# EAGLE library part MIDI_JACK (library CYCFI_Con)
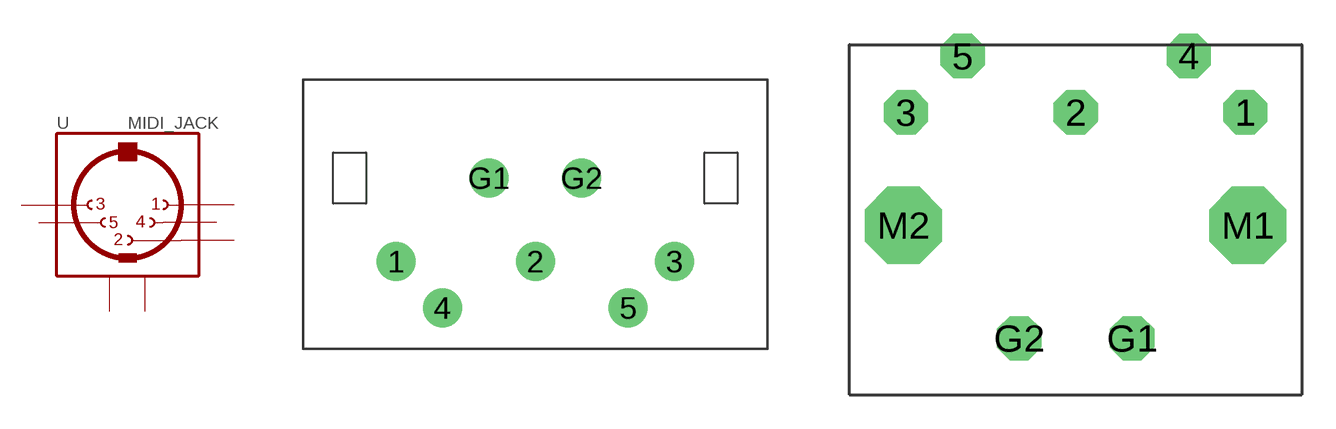
[diagram p25: symbol with the pads of MIDI_JACK; footprints MIDI_JACK, MIDI_JACK_CUI]

Designator prefix -

## MIDI_JACK  [MIDI_JACK]
1  1  pas
2  2  pas
3  3  pas
4  4  pas
5  5  pas
G1  G1
G2  G2

## MIDI_JACK_CUI  [MIDI_JACK_CUI]
Pads as for MIDI_JACK

## Footprint MIDI_JACK (pad centres in mm)
drill 1.4: 1 -7.5,0; 2 0,0; 3 7.5,0; 4 -5,-2.5; 5 5,-2.5; G1 -2.5,4.5; G2 2.5,4.5

## Footprint MIDI_JACK_CUI (pad centres in mm)
drill 1.3 octagon: 1 7.5,0; 2 0,0; 3 -7.5,0; 4 5,2.5; 5 -5,2.5; G1 2.5,-10; G2 -2.5,-10
drill 2.4 octagon: M1 7.62,-5; M2 -7.62,-5